# Altium footprint library 6U4AD_PCB_1212.PcbLib: 41 footprints (part 2 of 3)
Each footprint in its own frame and in the unit in brackets; x right, y up, seen from the top. Pads: shape width x height; smd on the part's side, far side on the other; paste and mask are expansions set on the pad; w line width, h text height; cw(c..) or ccw(c..) is an arc to the next point about the centre after c.
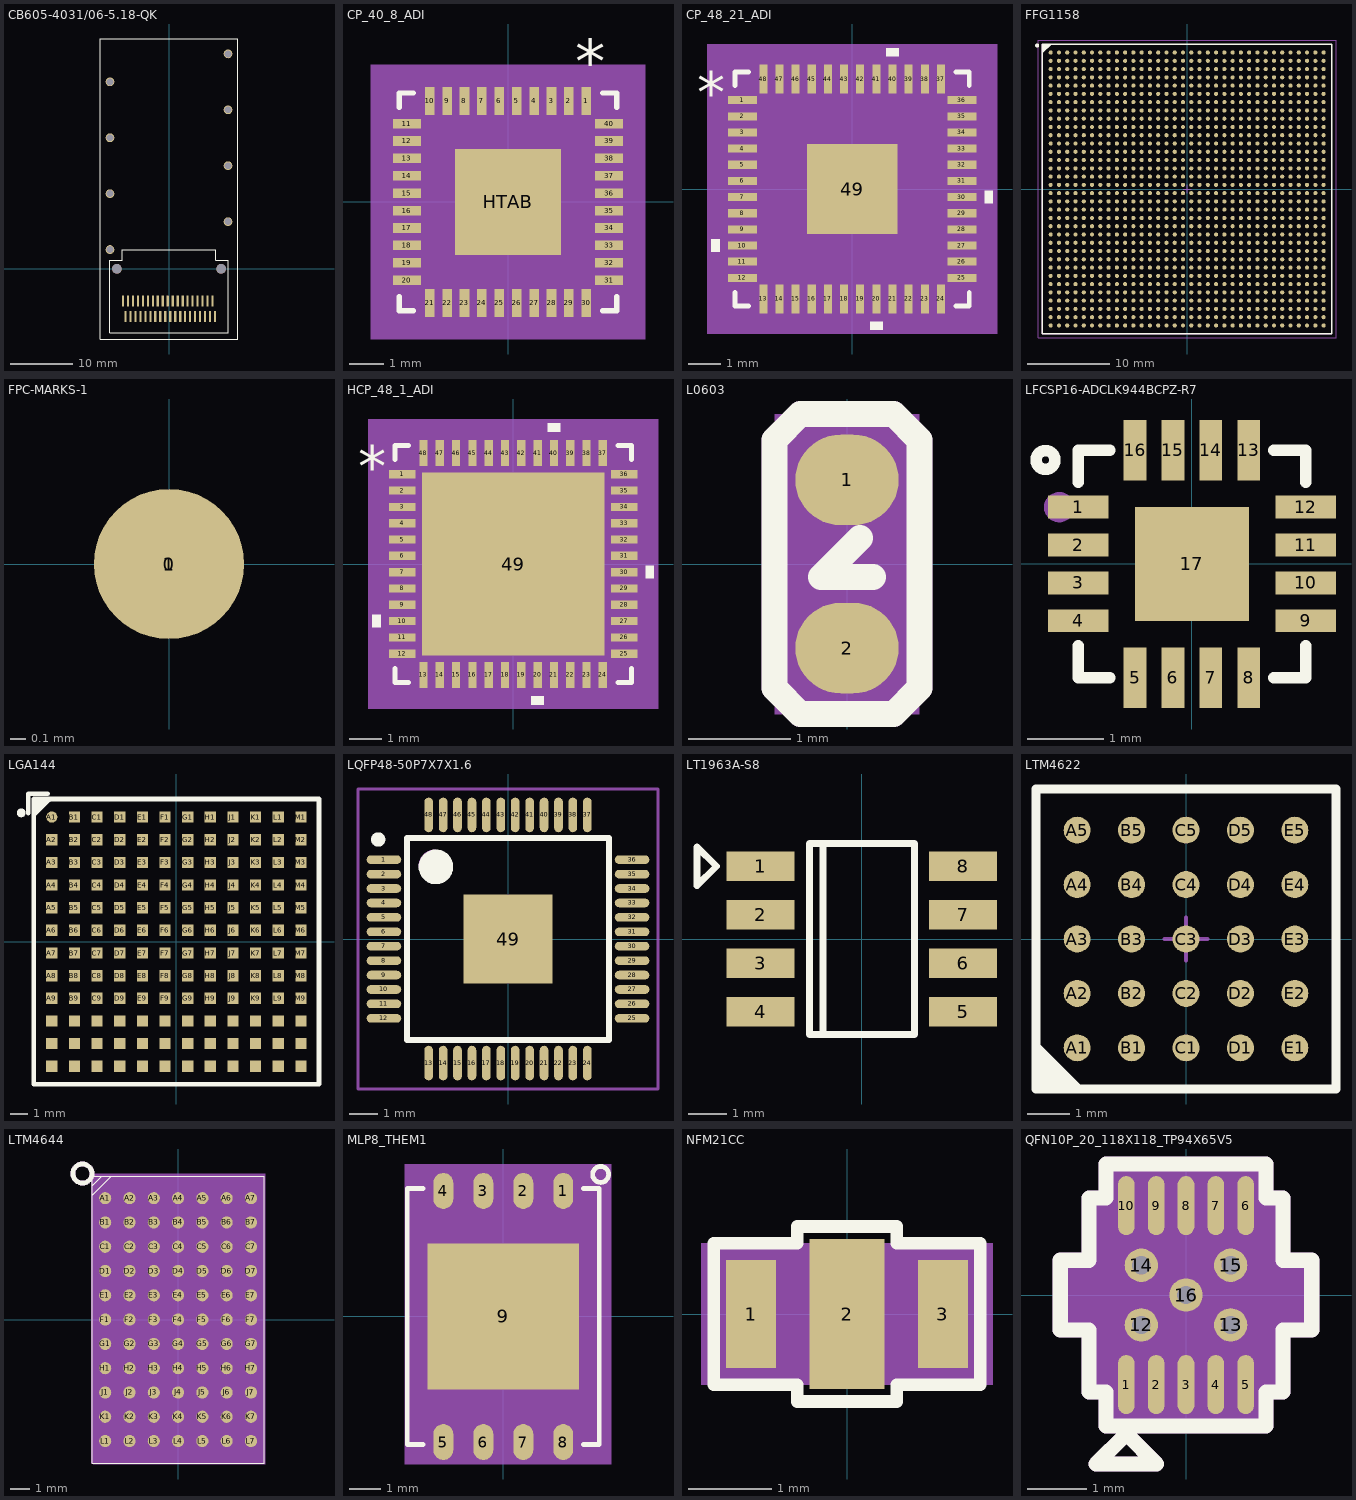
[diagram p1: the footprints below, top view; thin cyan lines are the x and y axes]

## CB605-4031/06-5.18-QK [mm]
pads (48):
  rect 0.35x1.8 smd: 1(7,-5.18) 2(6.2,-5.18) 3(5.4,-5.18) 4(4.6,-5.18) 5(3.8,-5.18) 6(3,-5.18) 7(2.2,-5.18) 8(1.4,-5.18) 9(0.6,-5.18) 10(-0.2,-5.18) 11(-1,-5.18) 12(-1.8,-5.18) 13(-2.6,-5.18) 14(-3.4,-5.18) 15(-4.2,-5.18) 16(-5,-5.18) 17(-5.8,-5.18) 18(-6.6,-5.18) 19(-7.4,-5.18) 20(-7,-7.69) 21(-6.2,-7.69) 22(-5.4,-7.69) 23(-4.6,-7.69) 24(-3.8,-7.69) 25(-3,-7.69) 26(-2.2,-7.69) 27(-1.4,-7.69) 28(-0.6,-7.69) 29(0.2,-7.69) 30(1,-7.69) 31(1.8,-7.69) 32(2.6,-7.69) 33(3.4,-7.69) 34(4.2,-7.69) 35(5,-7.69) 36(5.8,-7.69) 37(6.6,-7.69) 38(7.4,-7.69)
  round 1.4 hole 1.1: 39(-9.5,3.1) 39(-9.5,12.1) 39(-9.5,21.1) 39(-9.5,30.1) 39(9.5,7.6) 39(9.5,16.6) 39(9.5,25.6) 39(9.5,34.6)
  round 1.55 hole 1.55: ""(-8.4,0) ""(8.4,0)
Top Overlay:
  lines w0.1: -11.075,-11.3 -11.075,37 11.075,37 11.075,-11.3 -11.075,-11.3 ; -9.5,-10.3 -9.5,1.36 -7.51,1.36 -7.51,3.05 7.51,3.05 7.51,1.36 9.5,1.36 9.5,-10.3 -9.5,-10.3

## CP_40_8_ADI [mm]
pads (41):
  rect 0.275x0.805 smd paste+0 mask+0: 1(2.25,2.902) 2(1.75,2.902) 3(1.25,2.902) 4(0.75,2.902) 5(0.25,2.902) 6(-0.25,2.902) 7(-0.75,2.902) 8(-1.25,2.902) 9(-1.75,2.902) 10(-2.25,2.902) 21(-2.25,-2.902) 22(-1.75,-2.902) 23(-1.25,-2.902) 24(-0.75,-2.902) 25(-0.25,-2.902) 26(0.25,-2.902) 27(0.75,-2.902) 28(1.25,-2.902) 29(1.75,-2.902) 30(2.25,-2.902)
  rect 0.805x0.275 smd paste+0 mask+0: 11(-2.902,2.25) 12(-2.902,1.75) 13(-2.902,1.25) 14(-2.902,0.75) 15(-2.902,0.25) 16(-2.902,-0.25) 17(-2.902,-0.75) 18(-2.902,-1.25) 19(-2.902,-1.75) 20(-2.902,-2.25) 31(2.902,-2.25) 32(2.902,-1.75) 33(2.902,-1.25) 34(2.902,-0.75) 35(2.902,-0.25) 36(2.902,0.25) 37(2.902,0.75) 38(2.902,1.25) 39(2.902,1.75) 40(2.902,2.25)
  rect 3.05x3.05 smd paste+0 mask+0: HTAB(0,0)
Top Overlay:
  lines w0.152: -3.127,-2.72 -3.127,-3.127 -2.72,-3.127 ; -3.127,2.72 -3.127,3.127 -2.72,3.127 ; 2.72,-3.127 3.127,-3.127 3.127,-2.72 ; 2.72,3.127 3.127,3.127 3.127,2.72
  text "*" at 1.933,3.41 h1.27
Top Paste:
  region: 1.425,-0.1 0.1,-0.1 0.1,-1.425 1.425,-1.425
  region: 1.425,1.425 0.1,1.425 0.1,0.1 1.425,0.1
  region: -0.1,-0.1 -1.425,-0.1 -1.425,-1.425 -0.1,-1.425
  region: -0.1,1.425 -1.425,1.425 -1.425,0.1 -0.1,0.1
Mechanical 5:
  region: 3.94,-3.94 -3.94,-3.94 -3.94,3.94 3.94,3.94
Mechanical 13:
  lines w0.025: -3,-2.4 -3,-2.1 -3,-2.4 ; -3,-2.4 -2.4,-3 ; -3,2.4 -3,2.1 -3,2.4 ; -3,2.4 -2.4,3 ; -2.4,-3 -2.1,-3 -2.4,-3 ; -2.4,3 -2.1,3 -2.4,3 ; 2.4,-3 2.1,-3 2.4,-3 ; 2.4,-3 3,-2.4 ; 2.4,3 2.1,3 2.4,3 ; 2.4,3 3,2.4 ; 3,-2.4 3,-2.1 3,-2.4 ; 3,2.4 3,2.1 3,2.4 ; -3,-3 -3,3 3,3 3,-3 -3,-3 ; -3,-1.9 -3,-1.6 -3,-1.9 ; -3,-1.4 -3,-1.1 -3,-1.4 ; -3,-0.9 -3,-0.6 -3,-0.9 ; -3,-0.4 -3,-0.1 -3,-0.4 ; -3,0.1 -3,0.4 -3,0.1 ; -3,0.6 -3,0.9 -3,0.6 ; -3,1.1 -3,1.4 -3,1.1 ; -3,1.6 -3,1.9 -3,1.6 ; -1.9,-3 -1.6,-3 -1.9,-3 ; -1.9,3 -1.6,3 -1.9,3 ; -1.4,-3 -1.1,-3 -1.4,-3 ; -1.4,3 -1.1,3 -1.4,3 ; -0.9,-3 -0.6,-3 -0.9,-3 ; -0.9,3 -0.6,3 -0.9,3 ; -0.4,-3 -0.1,-3 -0.4,-3 ; -0.4,3 -0.1,3 -0.4,3 ; 0.1,-3 0.4,-3 0.1,-3 ; 0.1,3 0.4,3 0.1,3 ; 0.6,-3 0.9,-3 0.6,-3 ; 0.6,3 0.9,3 0.6,3 ; 1.1,-3 1.4,-3 1.1,-3 ; 1.1,3 1.4,3 1.1,3 ; 1.6,-3 1.9,-3 1.6,-3 ; 1.6,3 1.9,3 1.6,3 ; 3,-1.9 3,-1.6 3,-1.9 ; 3,-1.4 3,-1.1 3,-1.4 ; 3,-0.9 3,-0.6 3,-0.9 ; 3,-0.4 3,-0.1 3,-0.4 ; 3,0.1 3,0.4 3,0.1 ; 3,0.6 3,0.9 3,0.6 ; 3,1.1 3,1.4 3,1.1 ; 3,1.6 3,1.9 3,1.6
  text "*" at 2.091,2.433 h0.64
Mechanical 15:
  region: -2.641,-3.254 -3.254,-3.254 -3.254,-2.641 -3.559,-2.641 -3.559,2.641 -3.254,2.641 -3.254,3.254 -2.641,3.254 -2.641,3.559 2.641,3.559 2.641,3.254 3.254,3.254 3.254,2.641 3.559,2.641 3.559,-2.641 3.254,-2.641 3.254,-3.254 2.641,-3.254 2.641,-3.559 -2.641,-3.559
  lines w0.152: -3.559,-2.641 -3.559,2.641 -3.254,2.641 -3.254,3.254 -2.641,3.254 -2.641,3.559 2.641,3.559 2.641,3.254 3.254,3.254 3.254,2.641 3.559,2.641 3.559,-2.641 3.254,-2.641 3.254,-3.254 2.641,-3.254 2.641,-3.559 -2.641,-3.559 -2.641,-3.254 -3.254,-3.254 -3.254,-2.641 -3.559,-2.641
3D body "CP_40_8_ADI.step": height 1, standoff 0, extent -3,-3 3,3

## CP_48_21_ADI [mm]
pads (49):
  rect 0.9x0.25 smd paste+0 mask+0: 1(-3.4,2.75) 2(-3.4,2.25) 3(-3.4,1.75) 4(-3.4,1.25) 5(-3.4,0.75) 6(-3.4,0.25) 7(-3.4,-0.25) 8(-3.4,-0.75) 9(-3.4,-1.25) 10(-3.4,-1.75) 11(-3.4,-2.25) 12(-3.4,-2.75) 25(3.4,-2.75) 26(3.4,-2.25) 27(3.4,-1.75) 28(3.4,-1.25) 29(3.4,-0.75) 30(3.4,-0.25) 31(3.4,0.25) 32(3.4,0.75) 33(3.4,1.25) 34(3.4,1.75) 35(3.4,2.25) 36(3.4,2.75)
  rect 0.25x0.9 smd paste+0 mask+0: 13(-2.75,-3.4) 14(-2.25,-3.4) 15(-1.75,-3.4) 16(-1.25,-3.4) 17(-0.75,-3.4) 18(-0.25,-3.4) 19(0.25,-3.4) 20(0.75,-3.4) 21(1.25,-3.4) 22(1.75,-3.4) 23(2.25,-3.4) 24(2.75,-3.4) 37(2.75,3.4) 38(2.25,3.4) 39(1.75,3.4) 40(1.25,3.4) 41(0.75,3.4) 42(0.25,3.4) 43(-0.25,3.4) 44(-0.75,3.4) 45(-1.25,3.4) 46(-1.75,3.4) 47(-2.25,3.4) 48(-2.75,3.4)
  rect 2.8x2.8 smd paste-1.387 mask+0: 49(0,0)
Top Overlay:
  region: 1.441,4.104 1.06,4.104 1.06,4.358 1.441,4.358
  region: 4.104,-0.059 4.358,-0.059 4.358,-0.44 4.104,-0.44
  region: 0.941,-4.104 0.56,-4.104 0.56,-4.358 0.941,-4.358
  region: -4.104,-1.559 -4.358,-1.559 -4.358,-1.94 -4.104,-1.94
  lines w0.152: -3.627,-3.208 -3.627,-3.627 -3.208,-3.627 ; -3.627,3.208 -3.627,3.627 -3.208,3.627 ; 3.208,-3.627 3.627,-3.627 3.627,-3.208 ; 3.208,3.627 3.627,3.627 3.627,3.208
  text "*" at -4.802,2.365 h1.27
Top Paste:
  region: 1.3,-0.1 0.1,-0.1 0.1,-1.3 1.3,-1.3
  region: 1.3,1.3 0.1,1.3 0.1,0.1 1.3,0.1
  region: -0.1,-0.1 -1.3,-0.1 -1.3,-1.3 -0.1,-1.3
  region: -0.1,1.3 -1.3,1.3 -1.3,0.1 -0.1,0.1
Mechanical 5:
  region: 4.485,-4.485 -4.485,-4.485 -4.485,4.485 4.485,4.485
Mechanical 13:
  drawing of 197 lines, arcs and shapes, not listed
  text "*" at -3.267,2.365 h1.27
Mechanical 15:
  region: -3.129,-3.754 -3.754,-3.754 -3.754,-3.129 -4.104,-3.129 -4.104,3.129 -3.754,3.129 -3.754,3.754 -3.129,3.754 -3.129,4.104 3.129,4.104 3.129,3.754 3.754,3.754 3.754,3.129 4.104,3.129 4.104,-3.129 3.754,-3.129 3.754,-3.754 3.129,-3.754 3.129,-4.104 -3.129,-4.104
  lines w0.152: -4.104,-3.129 -4.104,3.129 -3.754,3.129 -3.754,3.754 -3.129,3.754 -3.129,4.104 3.129,4.104 3.129,3.754 3.754,3.754 3.754,3.129 4.104,3.129 4.104,-3.129 3.754,-3.129 3.754,-3.754 3.129,-3.754 3.129,-4.104 -3.129,-4.104 -3.129,-3.754 -3.754,-3.754 -3.754,-3.129 -4.104,-3.129
3D body "CP_48_21_ADI.step": height 0.8, standoff 0, extent -3.55,-3.55 3.55,3.55

## FFG1158 [mm] "BGA, 1156-Balls, Body 35x35mm, Pitch 1mm"
height 3.35
pads (1156):
  round 0.5 smd: A1(-16.5,16.5) A2(-15.5,16.5) A3(-14.5,16.5) A4(-13.5,16.5) A5(-12.5,16.5) A6(-11.5,16.5) A7(-10.5,16.5) A8(-9.5,16.5) A9(-8.5,16.5) A10(-7.5,16.5) A11(-6.5,16.5) A12(-5.5,16.5) A13(-4.5,16.5) A14(-3.5,16.5) A15(-2.5,16.5) A16(-1.5,16.5) A17(-0.5,16.5) A18(0.5,16.5) A19(1.5,16.5) A20(2.5,16.5) A21(3.5,16.5) A22(4.5,16.5) A23(5.5,16.5) A24(6.5,16.5) A25(7.5,16.5) A26(8.5,16.5) A27(9.5,16.5) A28(10.5,16.5) A29(11.5,16.5) A30(12.5,16.5) A31(13.5,16.5) A32(14.5,16.5) A33(15.5,16.5) A34(16.5,16.5) AA1(-16.5,-3.5) AA2(-15.5,-3.5) AA3(-14.5,-3.5) AA4(-13.5,-3.5) AA5(-12.5,-3.5) AA6(-11.5,-3.5) AA7(-10.5,-3.5) AA8(-9.5,-3.5) AA9(-8.5,-3.5) AA10(-7.5,-3.5) AA11(-6.5,-3.5) AA12(-5.5,-3.5) AA13(-4.5,-3.5) AA14(-3.5,-3.5) AA15(-2.5,-3.5) AA16(-1.5,-3.5) AA17(-0.5,-3.5) AA18(0.5,-3.5) AA19(1.5,-3.5) AA20(2.5,-3.5) AA21(3.5,-3.5) AA22(4.5,-3.5) AA23(5.5,-3.5) AA24(6.5,-3.5) AA25(7.5,-3.5) AA26(8.5,-3.5) AA27(9.5,-3.5) AA28(10.5,-3.5) AA29(11.5,-3.5) AA30(12.5,-3.5) AA31(13.5,-3.5) AA32(14.5,-3.5) AA33(15.5,-3.5) AA34(16.5,-3.5) AB1(-16.5,-4.5) AB2(-15.5,-4.5) AB3(-14.5,-4.5) AB4(-13.5,-4.5) AB5(-12.5,-4.5) AB6(-11.5,-4.5) AB7(-10.5,-4.5) AB8(-9.5,-4.5) AB9(-8.5,-4.5) AB10(-7.5,-4.5) AB11(-6.5,-4.5) AB12(-5.5,-4.5) AB13(-4.5,-4.5) AB14(-3.5,-4.5) AB15(-2.5,-4.5) AB16(-1.5,-4.5) AB17(-0.5,-4.5) AB18(0.5,-4.5) AB19(1.5,-4.5) AB20(2.5,-4.5) AB21(3.5,-4.5) AB22(4.5,-4.5) AB23(5.5,-4.5) AB24(6.5,-4.5) AB25(7.5,-4.5) AB26(8.5,-4.5) AB27(9.5,-4.5) AB28(10.5,-4.5) AB29(11.5,-4.5) AB30(12.5,-4.5) AB31(13.5,-4.5) AB32(14.5,-4.5) AB33(15.5,-4.5) AB34(16.5,-4.5) AC1(-16.5,-5.5) AC2(-15.5,-5.5) AC3(-14.5,-5.5) AC4(-13.5,-5.5) AC5(-12.5,-5.5) AC6(-11.5,-5.5) AC7(-10.5,-5.5) AC8(-9.5,-5.5) AC9(-8.5,-5.5) AC10(-7.5,-5.5) AC11(-6.5,-5.5) AC12(-5.5,-5.5) AC13(-4.5,-5.5) AC14(-3.5,-5.5) AC15(-2.5,-5.5) AC16(-1.5,-5.5) AC17(-0.5,-5.5) AC18(0.5,-5.5) AC19(1.5,-5.5) AC20(2.5,-5.5) AC21(3.5,-5.5) AC22(4.5,-5.5) AC23(5.5,-5.5) AC24(6.5,-5.5) AC25(7.5,-5.5) AC26(8.5,-5.5) AC27(9.5,-5.5) AC28(10.5,-5.5) AC29(11.5,-5.5) AC30(12.5,-5.5) AC31(13.5,-5.5) AC32(14.5,-5.5) AC33(15.5,-5.5) AC34(16.5,-5.5) AD1(-16.5,-6.5) AD2(-15.5,-6.5) AD3(-14.5,-6.5) AD4(-13.5,-6.5) AD5(-12.5,-6.5) AD6(-11.5,-6.5) AD7(-10.5,-6.5) AD8(-9.5,-6.5) AD9(-8.5,-6.5) AD10(-7.5,-6.5) AD11(-6.5,-6.5) AD12(-5.5,-6.5) AD13(-4.5,-6.5) AD14(-3.5,-6.5) AD15(-2.5,-6.5) AD16(-1.5,-6.5) AD17(-0.5,-6.5) AD18(0.5,-6.5) AD19(1.5,-6.5) AD20(2.5,-6.5) AD21(3.5,-6.5) AD22(4.5,-6.5) AD23(5.5,-6.5) AD24(6.5,-6.5) AD25(7.5,-6.5) AD26(8.5,-6.5) AD27(9.5,-6.5) AD28(10.5,-6.5) AD29(11.5,-6.5) AD30(12.5,-6.5) AD31(13.5,-6.5) AD32(14.5,-6.5) AD33(15.5,-6.5) AD34(16.5,-6.5) AE1(-16.5,-7.5) AE2(-15.5,-7.5) AE3(-14.5,-7.5) AE4(-13.5,-7.5) AE5(-12.5,-7.5) AE6(-11.5,-7.5) AE7(-10.5,-7.5) AE8(-9.5,-7.5) AE9(-8.5,-7.5) AE10(-7.5,-7.5) AE11(-6.5,-7.5) AE12(-5.5,-7.5) AE13(-4.5,-7.5) AE14(-3.5,-7.5) AE15(-2.5,-7.5) AE16(-1.5,-7.5) AE17(-0.5,-7.5) AE18(0.5,-7.5) AE19(1.5,-7.5) AE20(2.5,-7.5) AE21(3.5,-7.5) AE22(4.5,-7.5) AE23(5.5,-7.5) AE24(6.5,-7.5) AE25(7.5,-7.5) AE26(8.5,-7.5) AE27(9.5,-7.5) AE28(10.5,-7.5) AE29(11.5,-7.5) AE30(12.5,-7.5) AE31(13.5,-7.5) AE32(14.5,-7.5) AE33(15.5,-7.5) AE34(16.5,-7.5) AF1(-16.5,-8.5) AF2(-15.5,-8.5) AF3(-14.5,-8.5) AF4(-13.5,-8.5) AF5(-12.5,-8.5) AF6(-11.5,-8.5) AF7(-10.5,-8.5) AF8(-9.5,-8.5) AF9(-8.5,-8.5) AF10(-7.5,-8.5) AF11(-6.5,-8.5) AF12(-5.5,-8.5) AF13(-4.5,-8.5) AF14(-3.5,-8.5) AF15(-2.5,-8.5) AF16(-1.5,-8.5) AF17(-0.5,-8.5) AF18(0.5,-8.5) AF19(1.5,-8.5) AF20(2.5,-8.5) AF21(3.5,-8.5) AF22(4.5,-8.5) AF23(5.5,-8.5) AF24(6.5,-8.5) AF25(7.5,-8.5) AF26(8.5,-8.5) AF27(9.5,-8.5) AF28(10.5,-8.5) AF29(11.5,-8.5) AF30(12.5,-8.5) AF31(13.5,-8.5) AF32(14.5,-8.5) AF33(15.5,-8.5) AF34(16.5,-8.5) AG1(-16.5,-9.5) AG2(-15.5,-9.5) AG3(-14.5,-9.5) AG4(-13.5,-9.5) AG5(-12.5,-9.5) AG6(-11.5,-9.5) AG7(-10.5,-9.5) AG8(-9.5,-9.5) AG9(-8.5,-9.5) AG10(-7.5,-9.5) AG11(-6.5,-9.5) AG12(-5.5,-9.5) AG13(-4.5,-9.5) AG14(-3.5,-9.5) AG15(-2.5,-9.5) AG16(-1.5,-9.5) AG17(-0.5,-9.5) AG18(0.5,-9.5) AG19(1.5,-9.5) AG20(2.5,-9.5) AG21(3.5,-9.5) AG22(4.5,-9.5) AG23(5.5,-9.5) AG24(6.5,-9.5) AG25(7.5,-9.5) AG26(8.5,-9.5) AG27(9.5,-9.5) AG28(10.5,-9.5) AG29(11.5,-9.5) AG30(12.5,-9.5) AG31(13.5,-9.5) AG32(14.5,-9.5) AG33(15.5,-9.5) AG34(16.5,-9.5) AH1(-16.5,-10.5) AH2(-15.5,-10.5) AH3(-14.5,-10.5) AH4(-13.5,-10.5) AH5(-12.5,-10.5) AH6(-11.5,-10.5) AH7(-10.5,-10.5) AH8(-9.5,-10.5) AH9(-8.5,-10.5) AH10(-7.5,-10.5) AH11(-6.5,-10.5) AH12(-5.5,-10.5) AH13(-4.5,-10.5) AH14(-3.5,-10.5) AH15(-2.5,-10.5) AH16(-1.5,-10.5) AH17(-0.5,-10.5) AH18(0.5,-10.5) AH19(1.5,-10.5) AH20(2.5,-10.5) AH21(3.5,-10.5) AH22(4.5,-10.5) AH23(5.5,-10.5) AH24(6.5,-10.5) AH25(7.5,-10.5) AH26(8.5,-10.5) AH27(9.5,-10.5) AH28(10.5,-10.5) AH29(11.5,-10.5) AH30(12.5,-10.5) AH31(13.5,-10.5) AH32(14.5,-10.5) AH33(15.5,-10.5) AH34(16.5,-10.5) AJ1(-16.5,-11.5) AJ2(-15.5,-11.5) AJ3(-14.5,-11.5) AJ4(-13.5,-11.5) AJ5(-12.5,-11.5) AJ6(-11.5,-11.5) AJ7(-10.5,-11.5) AJ8(-9.5,-11.5) AJ9(-8.5,-11.5) AJ10(-7.5,-11.5) AJ11(-6.5,-11.5) AJ12(-5.5,-11.5) AJ13(-4.5,-11.5) AJ14(-3.5,-11.5) AJ15(-2.5,-11.5) AJ16(-1.5,-11.5) AJ17(-0.5,-11.5) AJ18(0.5,-11.5) AJ19(1.5,-11.5) AJ20(2.5,-11.5) AJ21(3.5,-11.5) AJ22(4.5,-11.5) AJ23(5.5,-11.5) AJ24(6.5,-11.5) AJ25(7.5,-11.5) AJ26(8.5,-11.5) AJ27(9.5,-11.5) AJ28(10.5,-11.5) AJ29(11.5,-11.5) AJ30(12.5,-11.5) AJ31(13.5,-11.5) AJ32(14.5,-11.5) AJ33(15.5,-11.5) AJ34(16.5,-11.5) AK1(-16.5,-12.5) AK2(-15.5,-12.5) AK3(-14.5,-12.5) AK4(-13.5,-12.5) AK5(-12.5,-12.5) AK6(-11.5,-12.5) AK7(-10.5,-12.5) AK8(-9.5,-12.5) AK9(-8.5,-12.5) AK10(-7.5,-12.5) AK11(-6.5,-12.5) AK12(-5.5,-12.5) AK13(-4.5,-12.5) AK14(-3.5,-12.5) AK15(-2.5,-12.5) AK16(-1.5,-12.5) AK17(-0.5,-12.5) AK18(0.5,-12.5) AK19(1.5,-12.5) AK20(2.5,-12.5) AK21(3.5,-12.5) AK22(4.5,-12.5) AK23(5.5,-12.5) AK24(6.5,-12.5) AK25(7.5,-12.5) AK26(8.5,-12.5) AK27(9.5,-12.5) AK28(10.5,-12.5) AK29(11.5,-12.5) AK30(12.5,-12.5) AK31(13.5,-12.5) AK32(14.5,-12.5) AK33(15.5,-12.5) AK34(16.5,-12.5) AL1(-16.5,-13.5) AL2(-15.5,-13.5) AL3(-14.5,-13.5) AL4(-13.5,-13.5) AL5(-12.5,-13.5) AL6(-11.5,-13.5) AL7(-10.5,-13.5) AL8(-9.5,-13.5) AL9(-8.5,-13.5) AL10(-7.5,-13.5) AL11(-6.5,-13.5) AL12(-5.5,-13.5) AL13(-4.5,-13.5) AL14(-3.5,-13.5) AL15(-2.5,-13.5) AL16(-1.5,-13.5) AL17(-0.5,-13.5) AL18(0.5,-13.5) AL19(1.5,-13.5) AL20(2.5,-13.5) AL21(3.5,-13.5) AL22(4.5,-13.5) AL23(5.5,-13.5) AL24(6.5,-13.5) AL25(7.5,-13.5) AL26(8.5,-13.5) AL27(9.5,-13.5) AL28(10.5,-13.5) AL29(11.5,-13.5) AL30(12.5,-13.5) AL31(13.5,-13.5) AL32(14.5,-13.5) AL33(15.5,-13.5) AL34(16.5,-13.5) AM1(-16.5,-14.5) AM2(-15.5,-14.5) AM3(-14.5,-14.5) AM4(-13.5,-14.5) AM5(-12.5,-14.5) AM6(-11.5,-14.5) AM7(-10.5,-14.5) AM8(-9.5,-14.5) AM9(-8.5,-14.5) AM10(-7.5,-14.5) AM11(-6.5,-14.5) AM12(-5.5,-14.5) AM13(-4.5,-14.5) AM14(-3.5,-14.5) AM15(-2.5,-14.5) AM16(-1.5,-14.5) AM17(-0.5,-14.5) AM18(0.5,-14.5) AM19(1.5,-14.5) AM20(2.5,-14.5) AM21(3.5,-14.5) AM22(4.5,-14.5) AM23(5.5,-14.5) AM24(6.5,-14.5) AM25(7.5,-14.5) AM26(8.5,-14.5) AM27(9.5,-14.5) AM28(10.5,-14.5) AM29(11.5,-14.5) AM30(12.5,-14.5) AM31(13.5,-14.5) AM32(14.5,-14.5) AM33(15.5,-14.5) AM34(16.5,-14.5) AN1(-16.5,-15.5) AN2(-15.5,-15.5) AN3(-14.5,-15.5) AN4(-13.5,-15.5) AN5(-12.5,-15.5) AN6(-11.5,-15.5) AN7(-10.5,-15.5) AN8(-9.5,-15.5) AN9(-8.5,-15.5) AN10(-7.5,-15.5) AN11(-6.5,-15.5) AN12(-5.5,-15.5) AN13(-4.5,-15.5) AN14(-3.5,-15.5) AN15(-2.5,-15.5) AN16(-1.5,-15.5) AN17(-0.5,-15.5) AN18(0.5,-15.5) AN19(1.5,-15.5) AN20(2.5,-15.5) AN21(3.5,-15.5) AN22(4.5,-15.5) AN23(5.5,-15.5) AN24(6.5,-15.5) AN25(7.5,-15.5) AN26(8.5,-15.5) AN27(9.5,-15.5) AN28(10.5,-15.5) AN29(11.5,-15.5) AN30(12.5,-15.5) AN31(13.5,-15.5) AN32(14.5,-15.5) AN33(15.5,-15.5) AN34(16.5,-15.5) AP1(-16.5,-16.5) AP2(-15.5,-16.5) AP3(-14.5,-16.5) AP4(-13.5,-16.5) AP5(-12.5,-16.5) AP6(-11.5,-16.5) AP7(-10.5,-16.5) AP8(-9.5,-16.5) AP9(-8.5,-16.5) AP10(-7.5,-16.5) AP11(-6.5,-16.5) AP12(-5.5,-16.5) AP13(-4.5,-16.5) AP14(-3.5,-16.5) AP15(-2.5,-16.5) AP16(-1.5,-16.5) AP17(-0.5,-16.5) AP18(0.5,-16.5) AP19(1.5,-16.5) AP20(2.5,-16.5) AP21(3.5,-16.5) AP22(4.5,-16.5) AP23(5.5,-16.5) AP24(6.5,-16.5) AP25(7.5,-16.5) AP26(8.5,-16.5) AP27(9.5,-16.5) AP28(10.5,-16.5) AP29(11.5,-16.5) AP30(12.5,-16.5) AP31(13.5,-16.5) AP32(14.5,-16.5) AP33(15.5,-16.5) AP34(16.5,-16.5) B1(-16.5,15.5) B2(-15.5,15.5) B3(-14.5,15.5) B4(-13.5,15.5) B5(-12.5,15.5) B6(-11.5,15.5) B7(-10.5,15.5) B8(-9.5,15.5) B9(-8.5,15.5) B10(-7.5,15.5) B11(-6.5,15.5) B12(-5.5,15.5) B13(-4.5,15.5) B14(-3.5,15.5) B15(-2.5,15.5) B16(-1.5,15.5) B17(-0.5,15.5) B18(0.5,15.5) B19(1.5,15.5) B20(2.5,15.5) B21(3.5,15.5) B22(4.5,15.5) B23(5.5,15.5) B24(6.5,15.5) B25(7.5,15.5) B26(8.5,15.5) B27(9.5,15.5) B28(10.5,15.5) B29(11.5,15.5) B30(12.5,15.5) B31(13.5,15.5) B32(14.5,15.5) B33(15.5,15.5) B34(16.5,15.5) C1(-16.5,14.5) C2(-15.5,14.5) C3(-14.5,14.5) C4(-13.5,14.5) C5(-12.5,14.5) C6(-11.5,14.5) C7(-10.5,14.5) C8(-9.5,14.5) C9(-8.5,14.5) C10(-7.5,14.5) C11(-6.5,14.5) C12(-5.5,14.5) C13(-4.5,14.5) C14(-3.5,14.5) C15(-2.5,14.5) C16(-1.5,14.5) C17(-0.5,14.5) C18(0.5,14.5) C19(1.5,14.5) C20(2.5,14.5) C21(3.5,14.5) C22(4.5,14.5) C23(5.5,14.5) C24(6.5,14.5) C25(7.5,14.5) C26(8.5,14.5) C27(9.5,14.5) C28(10.5,14.5) C29(11.5,14.5) C30(12.5,14.5) C31(13.5,14.5) C32(14.5,14.5) C33(15.5,14.5) C34(16.5,14.5) D1(-16.5,13.5) D2(-15.5,13.5) D3(-14.5,13.5) D4(-13.5,13.5) D5(-12.5,13.5) D6(-11.5,13.5) D7(-10.5,13.5) D8(-9.5,13.5) D9(-8.5,13.5) D10(-7.5,13.5) D11(-6.5,13.5) D12(-5.5,13.5) D13(-4.5,13.5) D14(-3.5,13.5) D15(-2.5,13.5) D16(-1.5,13.5) D17(-0.5,13.5) D18(0.5,13.5) D19(1.5,13.5) D20(2.5,13.5) D21(3.5,13.5) D22(4.5,13.5) D23(5.5,13.5) D24(6.5,13.5) D25(7.5,13.5) D26(8.5,13.5) D27(9.5,13.5) D28(10.5,13.5) D29(11.5,13.5) D30(12.5,13.5) D31(13.5,13.5) D32(14.5,13.5) D33(15.5,13.5) D34(16.5,13.5) E1(-16.5,12.5) E2(-15.5,12.5) E3(-14.5,12.5) E4(-13.5,12.5) E5(-12.5,12.5) E6(-11.5,12.5) E7(-10.5,12.5) E8(-9.5,12.5) E9(-8.5,12.5) E10(-7.5,12.5) E11(-6.5,12.5) E12(-5.5,12.5) E13(-4.5,12.5) E14(-3.5,12.5) E15(-2.5,12.5) E16(-1.5,12.5) E17(-0.5,12.5) E18(0.5,12.5) E19(1.5,12.5) E20(2.5,12.5) E21(3.5,12.5) E22(4.5,12.5) E23(5.5,12.5) E24(6.5,12.5) E25(7.5,12.5) E26(8.5,12.5) E27(9.5,12.5) E28(10.5,12.5) E29(11.5,12.5) E30(12.5,12.5) E31(13.5,12.5) E32(14.5,12.5) E33(15.5,12.5) E34(16.5,12.5) F1(-16.5,11.5) F2(-15.5,11.5) F3(-14.5,11.5) F4(-13.5,11.5) F5(-12.5,11.5) F6(-11.5,11.5) F7(-10.5,11.5) F8(-9.5,11.5) F9(-8.5,11.5) F10(-7.5,11.5) F11(-6.5,11.5) F12(-5.5,11.5) F13(-4.5,11.5) F14(-3.5,11.5) F15(-2.5,11.5) F16(-1.5,11.5) F17(-0.5,11.5) F18(0.5,11.5) F19(1.5,11.5) F20(2.5,11.5) F21(3.5,11.5) F22(4.5,11.5) F23(5.5,11.5) F24(6.5,11.5) F25(7.5,11.5) F26(8.5,11.5) F27(9.5,11.5) F28(10.5,11.5) F29(11.5,11.5) F30(12.5,11.5) F31(13.5,11.5) F32(14.5,11.5) F33(15.5,11.5) F34(16.5,11.5) G1(-16.5,10.5) G2(-15.5,10.5) G3(-14.5,10.5) G4(-13.5,10.5) G5(-12.5,10.5) G6(-11.5,10.5) G7(-10.5,10.5) G8(-9.5,10.5) G9(-8.5,10.5) G10(-7.5,10.5) G11(-6.5,10.5) G12(-5.5,10.5) G13(-4.5,10.5) G14(-3.5,10.5) G15(-2.5,10.5) G16(-1.5,10.5) G17(-0.5,10.5) G18(0.5,10.5) G19(1.5,10.5) G20(2.5,10.5) G21(3.5,10.5) G22(4.5,10.5) G23(5.5,10.5) G24(6.5,10.5) G25(7.5,10.5) G26(8.5,10.5) G27(9.5,10.5) G28(10.5,10.5) G29(11.5,10.5) G30(12.5,10.5) G31(13.5,10.5) G32(14.5,10.5) G33(15.5,10.5) G34(16.5,10.5) H1(-16.5,9.5) H2(-15.5,9.5) H3(-14.5,9.5) H4(-13.5,9.5) H5(-12.5,9.5) H6(-11.5,9.5) H7(-10.5,9.5) H8(-9.5,9.5) H9(-8.5,9.5) H10(-7.5,9.5) H11(-6.5,9.5) H12(-5.5,9.5) H13(-4.5,9.5) H14(-3.5,9.5) H15(-2.5,9.5) H16(-1.5,9.5) H17(-0.5,9.5) H18(0.5,9.5) H19(1.5,9.5) H20(2.5,9.5) H21(3.5,9.5) H22(4.5,9.5) H23(5.5,9.5) H24(6.5,9.5) H25(7.5,9.5) H26(8.5,9.5) H27(9.5,9.5) H28(10.5,9.5) H29(11.5,9.5) H30(12.5,9.5) H31(13.5,9.5) H32(14.5,9.5) H33(15.5,9.5) H34(16.5,9.5) J1(-16.5,8.5) J2(-15.5,8.5) J3(-14.5,8.5) J4(-13.5,8.5) J5(-12.5,8.5) J6(-11.5,8.5) J7(-10.5,8.5) J8(-9.5,8.5) J9(-8.5,8.5) J10(-7.5,8.5) J11(-6.5,8.5) J12(-5.5,8.5) J13(-4.5,8.5) J14(-3.5,8.5) J15(-2.5,8.5) J16(-1.5,8.5) J17(-0.5,8.5) J18(0.5,8.5) J19(1.5,8.5) J20(2.5,8.5) J21(3.5,8.5) J22(4.5,8.5) J23(5.5,8.5) J24(6.5,8.5) J25(7.5,8.5) J26(8.5,8.5) J27(9.5,8.5) J28(10.5,8.5) J29(11.5,8.5) J30(12.5,8.5) J31(13.5,8.5) J32(14.5,8.5) J33(15.5,8.5) J34(16.5,8.5) K1(-16.5,7.5) K2(-15.5,7.5) K3(-14.5,7.5) K4(-13.5,7.5) K5(-12.5,7.5) K6(-11.5,7.5) K7(-10.5,7.5) K8(-9.5,7.5) K9(-8.5,7.5) K10(-7.5,7.5) K11(-6.5,7.5) K12(-5.5,7.5) K13(-4.5,7.5) K14(-3.5,7.5) K15(-2.5,7.5) K16(-1.5,7.5) K17(-0.5,7.5) K18(0.5,7.5) K19(1.5,7.5) K20(2.5,7.5) K21(3.5,7.5) K22(4.5,7.5) K23(5.5,7.5) K24(6.5,7.5) K25(7.5,7.5) K26(8.5,7.5) K27(9.5,7.5) K28(10.5,7.5) K29(11.5,7.5) K30(12.5,7.5) K31(13.5,7.5) K32(14.5,7.5) K33(15.5,7.5) K34(16.5,7.5) L1(-16.5,6.5) L2(-15.5,6.5) L3(-14.5,6.5) L4(-13.5,6.5) L5(-12.5,6.5) L6(-11.5,6.5) L7(-10.5,6.5) L8(-9.5,6.5) L9(-8.5,6.5) L10(-7.5,6.5) L11(-6.5,6.5) L12(-5.5,6.5) L13(-4.5,6.5) L14(-3.5,6.5) L15(-2.5,6.5) L16(-1.5,6.5) L17(-0.5,6.5) L18(0.5,6.5) L19(1.5,6.5) L20(2.5,6.5) L21(3.5,6.5) L22(4.5,6.5) L23(5.5,6.5) L24(6.5,6.5) L25(7.5,6.5) L26(8.5,6.5) L27(9.5,6.5) L28(10.5,6.5) L29(11.5,6.5) L30(12.5,6.5) L31(13.5,6.5) L32(14.5,6.5) L33(15.5,6.5) L34(16.5,6.5) M1(-16.5,5.5) M2(-15.5,5.5) M3(-14.5,5.5) M4(-13.5,5.5) M5(-12.5,5.5) M6(-11.5,5.5) M7(-10.5,5.5) M8(-9.5,5.5) M9(-8.5,5.5) M10(-7.5,5.5) M11(-6.5,5.5) M12(-5.5,5.5) M13(-4.5,5.5) M14(-3.5,5.5) M15(-2.5,5.5) M16(-1.5,5.5) M17(-0.5,5.5) M18(0.5,5.5) M19(1.5,5.5) M20(2.5,5.5) M21(3.5,5.5) M22(4.5,5.5) M23(5.5,5.5) M24(6.5,5.5) M25(7.5,5.5) M26(8.5,5.5) M27(9.5,5.5) M28(10.5,5.5) M29(11.5,5.5) M30(12.5,5.5) M31(13.5,5.5) M32(14.5,5.5) M33(15.5,5.5) M34(16.5,5.5) N1(-16.5,4.5) N2(-15.5,4.5) N3(-14.5,4.5) N4(-13.5,4.5) N5(-12.5,4.5) N6(-11.5,4.5) N7(-10.5,4.5) N8(-9.5,4.5) N9(-8.5,4.5) N10(-7.5,4.5) N11(-6.5,4.5) N12(-5.5,4.5) N13(-4.5,4.5) N14(-3.5,4.5) N15(-2.5,4.5) N16(-1.5,4.5) N17(-0.5,4.5) N18(0.5,4.5) N19(1.5,4.5) N20(2.5,4.5) N21(3.5,4.5) N22(4.5,4.5) N23(5.5,4.5) N24(6.5,4.5) N25(7.5,4.5) N26(8.5,4.5) N27(9.5,4.5) N28(10.5,4.5) N29(11.5,4.5) N30(12.5,4.5) N31(13.5,4.5) N32(14.5,4.5) N33(15.5,4.5) N34(16.5,4.5) P1(-16.5,3.5) P2(-15.5,3.5) P3(-14.5,3.5) P4(-13.5,3.5) P5(-12.5,3.5) P6(-11.5,3.5) P7(-10.5,3.5) P8(-9.5,3.5) P9(-8.5,3.5) P10(-7.5,3.5) P11(-6.5,3.5) P12(-5.5,3.5) P13(-4.5,3.5) P14(-3.5,3.5) P15(-2.5,3.5) P16(-1.5,3.5) P17(-0.5,3.5) P18(0.5,3.5) P19(1.5,3.5) P20(2.5,3.5) P21(3.5,3.5) P22(4.5,3.5) P23(5.5,3.5) P24(6.5,3.5) P25(7.5,3.5) P26(8.5,3.5) P27(9.5,3.5) P28(10.5,3.5) P29(11.5,3.5) P30(12.5,3.5) P31(13.5,3.5) P32(14.5,3.5) P33(15.5,3.5) P34(16.5,3.5) R1(-16.5,2.5) R2(-15.5,2.5) R3(-14.5,2.5) R4(-13.5,2.5) R5(-12.5,2.5) R6(-11.5,2.5) R7(-10.5,2.5) R8(-9.5,2.5) R9(-8.5,2.5) R10(-7.5,2.5) R11(-6.5,2.5) R12(-5.5,2.5) R13(-4.5,2.5) R14(-3.5,2.5) R15(-2.5,2.5) R16(-1.5,2.5) R17(-0.5,2.5) R18(0.5,2.5) R19(1.5,2.5) R20(2.5,2.5) R21(3.5,2.5) R22(4.5,2.5) R23(5.5,2.5) R24(6.5,2.5) R25(7.5,2.5) R26(8.5,2.5) R27(9.5,2.5) R28(10.5,2.5) R29(11.5,2.5) R30(12.5,2.5) R31(13.5,2.5) R32(14.5,2.5) R33(15.5,2.5) R34(16.5,2.5) T1(-16.5,1.5) T2(-15.5,1.5) T3(-14.5,1.5) T4(-13.5,1.5) T5(-12.5,1.5) T6(-11.5,1.5) T7(-10.5,1.5) T8(-9.5,1.5) T9(-8.5,1.5) T10(-7.5,1.5) T11(-6.5,1.5) T12(-5.5,1.5) T13(-4.5,1.5) T14(-3.5,1.5) T15(-2.5,1.5) T16(-1.5,1.5) T17(-0.5,1.5) T18(0.5,1.5) T19(1.5,1.5) T20(2.5,1.5) T21(3.5,1.5) T22(4.5,1.5) T23(5.5,1.5) T24(6.5,1.5) T25(7.5,1.5) T26(8.5,1.5) T27(9.5,1.5) T28(10.5,1.5) T29(11.5,1.5) T30(12.5,1.5) T31(13.5,1.5) T32(14.5,1.5) T33(15.5,1.5) T34(16.5,1.5) U1(-16.5,0.5) U2(-15.5,0.5) U3(-14.5,0.5) U4(-13.5,0.5) U5(-12.5,0.5) U6(-11.5,0.5) U7(-10.5,0.5) U8(-9.5,0.5) U9(-8.5,0.5) U10(-7.5,0.5) U11(-6.5,0.5) U12(-5.5,0.5) U13(-4.5,0.5) U14(-3.5,0.5) U15(-2.5,0.5) U16(-1.5,0.5) U17(-0.5,0.5) U18(0.5,0.5) U19(1.5,0.5) U20(2.5,0.5) U21(3.5,0.5) U22(4.5,0.5) U23(5.5,0.5) U24(6.5,0.5) U25(7.5,0.5) U26(8.5,0.5) U27(9.5,0.5) U28(10.5,0.5) U29(11.5,0.5) U30(12.5,0.5) U31(13.5,0.5) U32(14.5,0.5) U33(15.5,0.5) U34(16.5,0.5) V1(-16.5,-0.5) V2(-15.5,-0.5) V3(-14.5,-0.5) V4(-13.5,-0.5) V5(-12.5,-0.5) V6(-11.5,-0.5) V7(-10.5,-0.5) V8(-9.5,-0.5) V9(-8.5,-0.5) V10(-7.5,-0.5) V11(-6.5,-0.5) V12(-5.5,-0.5) V13(-4.5,-0.5) V14(-3.5,-0.5) V15(-2.5,-0.5) V16(-1.5,-0.5) V17(-0.5,-0.5) V18(0.5,-0.5) V19(1.5,-0.5) V20(2.5,-0.5) V21(3.5,-0.5) V22(4.5,-0.5) V23(5.5,-0.5) V24(6.5,-0.5) V25(7.5,-0.5) V26(8.5,-0.5) V27(9.5,-0.5) V28(10.5,-0.5) V29(11.5,-0.5) V30(12.5,-0.5) V31(13.5,-0.5) V32(14.5,-0.5) V33(15.5,-0.5) V34(16.5,-0.5) W1(-16.5,-1.5) W2(-15.5,-1.5) W3(-14.5,-1.5) W4(-13.5,-1.5) W5(-12.5,-1.5) W6(-11.5,-1.5) W7(-10.5,-1.5) W8(-9.5,-1.5) W9(-8.5,-1.5) W10(-7.5,-1.5) W11(-6.5,-1.5) W12(-5.5,-1.5) W13(-4.5,-1.5) W14(-3.5,-1.5) W15(-2.5,-1.5) W16(-1.5,-1.5) W17(-0.5,-1.5) W18(0.5,-1.5) W19(1.5,-1.5) W20(2.5,-1.5) W21(3.5,-1.5) W22(4.5,-1.5) W23(5.5,-1.5) W24(6.5,-1.5) W25(7.5,-1.5) W26(8.5,-1.5) W27(9.5,-1.5) W28(10.5,-1.5) W29(11.5,-1.5) W30(12.5,-1.5) W31(13.5,-1.5) W32(14.5,-1.5) W33(15.5,-1.5) W34(16.5,-1.5) Y1(-16.5,-2.5) Y2(-15.5,-2.5) Y3(-14.5,-2.5) Y4(-13.5,-2.5) Y5(-12.5,-2.5) Y6(-11.5,-2.5) Y7(-10.5,-2.5) Y8(-9.5,-2.5) Y9(-8.5,-2.5) Y10(-7.5,-2.5) Y11(-6.5,-2.5) Y12(-5.5,-2.5) Y13(-4.5,-2.5) Y14(-3.5,-2.5) Y15(-2.5,-2.5) Y16(-1.5,-2.5) Y17(-0.5,-2.5) Y18(0.5,-2.5) Y19(1.5,-2.5) Y20(2.5,-2.5) Y21(3.5,-2.5) Y22(4.5,-2.5) Y23(5.5,-2.5) Y24(6.5,-2.5) Y25(7.5,-2.5) Y26(8.5,-2.5) Y27(9.5,-2.5) Y28(10.5,-2.5) Y29(11.5,-2.5) Y30(12.5,-2.5) Y31(13.5,-2.5) Y32(14.5,-2.5) Y33(15.5,-2.5) Y34(16.5,-2.5)
Top Overlay:
  circle w0.25: c-18.15,17.35 r0.125
  region: -16.5,17.5 -17.5,16.5 -17.5,17.5
  lines w0.2: -17.5,16.5 -16.5,17.5 ; -17.5,-17.5 17.5,-17.5 17.5,17.5 -17.5,17.5 -17.5,-17.5
Mechanical 13:
  lines w0.1: -17.5,-17.5 17.5,-17.5 17.5,17.5 -17.5,17.5 -17.5,-17.5
Mechanical 15:
  lines w0.05: -18,-18 18,-18 18,18 -18,18 -18,-18
  lines w0.1: -0.5,0 0.5,0 ; 0,-0.5 0,0.5
3D body: height 3.35, standoff 0.4, extent -17.5,-17.5 17.5,17.5

## FPC-MARKS-1 [mm]
pads (2):
  round 2 on Top Solder: 0(0,0)
  round 1 smd: 1(0,0)

## HCP_48_1_ADI [mm]
pads (49):
  rect 0.805x0.254 smd paste+0 mask+0: 1(-3.402,2.75) 2(-3.402,2.25) 3(-3.402,1.75) 4(-3.402,1.25) 5(-3.402,0.75) 6(-3.402,0.25) 7(-3.402,-0.25) 8(-3.402,-0.75) 9(-3.402,-1.25) 10(-3.402,-1.75) 11(-3.402,-2.25) 12(-3.402,-2.75) 25(3.402,-2.75) 26(3.402,-2.25) 27(3.402,-1.75) 28(3.402,-1.25) 29(3.402,-0.75) 30(3.402,-0.25) 31(3.402,0.25) 32(3.402,0.75) 33(3.402,1.25) 34(3.402,1.75) 35(3.402,2.25) 36(3.402,2.75)
  rect 0.254x0.805 smd paste+0 mask+0: 13(-2.75,-3.402) 14(-2.25,-3.402) 15(-1.75,-3.402) 16(-1.25,-3.402) 17(-0.75,-3.402) 18(-0.25,-3.402) 19(0.25,-3.402) 20(0.75,-3.402) 21(1.25,-3.402) 22(1.75,-3.402) 23(2.25,-3.402) 24(2.75,-3.402) 37(2.75,3.402) 38(2.25,3.402) 39(1.75,3.402) 40(1.25,3.402) 41(0.75,3.402) 42(0.25,3.402) 43(-0.25,3.402) 44(-0.75,3.402) 45(-1.25,3.402) 46(-1.75,3.402) 47(-2.25,3.402) 48(-2.75,3.402)
  rect 5.6x5.6 smd paste-2.787 mask+0: 49(0,0)
Top Overlay:
  region: 1.441,4.059 1.06,4.059 1.06,4.313 1.441,4.313
  region: 4.059,-0.059 4.313,-0.059 4.313,-0.44 4.059,-0.44
  region: 0.941,-4.059 0.56,-4.059 0.56,-4.313 0.941,-4.313
  region: -4.059,-1.559 -4.313,-1.559 -4.313,-1.94 -4.059,-1.94
  lines w0.152: -3.627,-3.21 -3.627,-3.627 -3.21,-3.627 ; -3.627,3.21 -3.627,3.627 -3.21,3.627 ; 3.21,-3.627 3.627,-3.627 3.627,-3.21 ; 3.21,3.627 3.627,3.627 3.627,3.21
  text "*" at -4.757,2.365 h1.27
Top Paste:
  region: 2.7,-1.5 1.5,-1.5 1.5,-2.7 2.7,-2.7
  region: 2.7,-0.1 1.5,-0.1 1.5,-1.3 2.7,-1.3
  region: 2.7,1.3 1.5,1.3 1.5,0.1 2.7,0.1
  region: 2.7,2.7 1.5,2.7 1.5,1.5 2.7,1.5
  region: 1.3,-1.5 0.1,-1.5 0.1,-2.7 1.3,-2.7
  region: 1.3,-0.1 0.1,-0.1 0.1,-1.3 1.3,-1.3
  region: 1.3,1.3 0.1,1.3 0.1,0.1 1.3,0.1
  region: 1.3,2.7 0.1,2.7 0.1,1.5 1.3,1.5
  region: -0.1,-1.5 -1.3,-1.5 -1.3,-2.7 -0.1,-2.7
  region: -0.1,-0.1 -1.3,-0.1 -1.3,-1.3 -0.1,-1.3
  region: -0.1,1.3 -1.3,1.3 -1.3,0.1 -0.1,0.1
  region: -0.1,2.7 -1.3,2.7 -1.3,1.5 -0.1,1.5
  region: -1.5,-1.5 -2.7,-1.5 -2.7,-2.7 -1.5,-2.7
  region: -1.5,-0.1 -2.7,-0.1 -2.7,-1.3 -1.5,-1.3
  region: -1.5,1.3 -2.7,1.3 -2.7,0.1 -1.5,0.1
  region: -1.5,2.7 -2.7,2.7 -2.7,1.5 -1.5,1.5
Mechanical 5:
  region: 4.44,-4.44 -4.44,-4.44 -4.44,4.44 4.44,4.44
Mechanical 13:
  lines w0.025: -3.5,2.23 -2.23,3.5 ; -3.5,-3.5 -3.5,3.5 3.5,3.5 3.5,-3.5 -3.5,-3.5 ; -3.5,-2.902 -3.5,-2.598 -3.5,-2.902 ; -3.5,-2.402 -3.5,-2.098 -3.5,-2.402 ; -3.5,-1.902 -3.5,-1.598 -3.5,-1.902 ; -3.5,-1.402 -3.5,-1.098 -3.5,-1.402 ; -3.5,-0.902 -3.5,-0.598 -3.5,-0.902 ; -3.5,-0.402 -3.5,-0.098 -3.5,-0.402 ; -3.5,0.098 -3.5,0.402 -3.5,0.098 ; -3.5,0.598 -3.5,0.902 -3.5,0.598 ; -3.5,1.098 -3.5,1.402 -3.5,1.098 ; -3.5,1.598 -3.5,1.902 -3.5,1.598 ; -3.5,2.098 -3.5,2.402 -3.5,2.098 ; -3.5,2.598 -3.5,2.902 -3.5,2.598 ; -2.902,-3.5 -2.598,-3.5 -2.902,-3.5 ; -2.902,3.5 -2.598,3.5 -2.902,3.5 ; -2.402,-3.5 -2.098,-3.5 -2.402,-3.5 ; -2.402,3.5 -2.098,3.5 -2.402,3.5 ; -1.902,-3.5 -1.598,-3.5 -1.902,-3.5 ; -1.902,3.5 -1.598,3.5 -1.902,3.5 ; -1.402,-3.5 -1.098,-3.5 -1.402,-3.5 ; -1.402,3.5 -1.098,3.5 -1.402,3.5 ; -0.902,-3.5 -0.598,-3.5 -0.902,-3.5 ; -0.902,3.5 -0.598,3.5 -0.902,3.5 ; -0.402,-3.5 -0.098,-3.5 -0.402,-3.5 ; -0.402,3.5 -0.098,3.5 -0.402,3.5 ; 0.098,-3.5 0.402,-3.5 0.098,-3.5 ; 0.098,3.5 0.402,3.5 0.098,3.5 ; 0.598,-3.5 0.902,-3.5 0.598,-3.5 ; 0.598,3.5 0.902,3.5 0.598,3.5 ; 1.098,-3.5 1.402,-3.5 1.098,-3.5 ; 1.098,3.5 1.402,3.5 1.098,3.5 ; 1.598,-3.5 1.902,-3.5 1.598,-3.5 ; 1.598,3.5 1.902,3.5 1.598,3.5 ; 2.098,-3.5 2.402,-3.5 2.098,-3.5 ; 2.098,3.5 2.402,3.5 2.098,3.5 ; 2.598,-3.5 2.902,-3.5 2.598,-3.5 ; 2.598,3.5 2.902,3.5 2.598,3.5 ; 3.5,-2.902 3.5,-2.598 3.5,-2.902 ; 3.5,-2.402 3.5,-2.098 3.5,-2.402 ; 3.5,-1.902 3.5,-1.598 3.5,-1.902 ; 3.5,-1.402 3.5,-1.098 3.5,-1.402 ; 3.5,-0.902 3.5,-0.598 3.5,-0.902 ; 3.5,-0.402 3.5,-0.098 3.5,-0.402 ; 3.5,0.098 3.5,0.402 3.5,0.098 ; 3.5,0.598 3.5,0.902 3.5,0.598 ; 3.5,1.098 3.5,1.402 3.5,1.098 ; 3.5,1.598 3.5,1.902 3.5,1.598 ; 3.5,2.098 3.5,2.402 3.5,2.098 ; 3.5,2.598 3.5,2.902 3.5,2.598
  text "*" at -3.317,2.365 h1.27
Mechanical 15:
  region: -3.131,-3.754 -3.754,-3.754 -3.754,-3.131 -4.059,-3.131 -4.059,3.131 -3.754,3.131 -3.754,3.754 -3.131,3.754 -3.131,4.059 3.131,4.059 3.131,3.754 3.754,3.754 3.754,3.131 4.059,3.131 4.059,-3.131 3.754,-3.131 3.754,-3.754 3.131,-3.754 3.131,-4.059 -3.131,-4.059
  lines w0.152: -4.059,-3.131 -4.059,3.131 -3.754,3.131 -3.754,3.754 -3.131,3.754 -3.131,4.059 3.131,4.059 3.131,3.754 3.754,3.754 3.754,3.131 4.059,3.131 4.059,-3.131 3.754,-3.131 3.754,-3.754 3.131,-3.754 3.131,-4.059 -3.131,-4.059 -3.131,-3.754 -3.754,-3.754 -3.754,-3.131 -4.059,-3.131
3D body "HCP_48_1_ADI.step": height 0.9, standoff 0, extent -3.5,-3.5 3.5,3.5

## L0603 [mil] "L0603"
pads (2):
  oval 40x35 smd: 1(0,32.5) 2(0,-32.5)
Top Overlay:
  lines w10: 5,10 -10,-5 10,-5 ; -28,-48 -28,48 -18,58 18,58 28,48 28,-48 18,-58 -18,-58 -28,-48
Mechanical 5:
  lines w10: -25,-51.01 -28,-48 -28,48 -25,51.01 ; -21,-54.99 -18,-58 18,-58 21,-54.99 ; -21,54.99 -18,58 18,58 21,54.99 ; 5,10 -10,-5 10,-5 ; 25,-51.01 28,-48 28,48 25,51.01
Mechanical 14:
  text "1" at 11.2,32.5 h28
  text "2" at 11.2,-32.5 h28
Mechanical 16:
  pour cut-out: -28,-58 28,-58 28,58 -28,58
  region: -19.7,-35.4 19.7,-35.4 19.7,35.4 -19.7,35.4
  lines w1: -19.7,-35.4 -19.7,35.4 19.7,35.4 19.7,-35.4 -19.7,-35.4
3D body: height 150, standoff 0, extent -19.7,-35.4 19.7,35.4

## LFCSP16-ADCLK944BCPZ-R7 [mm]
pads (17):
  rect 0.8x0.3 smd: 1(-1.5,0.75) 2(-1.5,0.249) 3(-1.5,-0.25) 4(-1.5,-0.75) 9(1.5,-0.75) 10(1.5,-0.25) 11(1.5,0.25) 12(1.5,0.75)
  rect 0.3x0.8 smd: 5(-0.75,-1.5) 6(-0.25,-1.5) 7(0.25,-1.5) 8(0.751,-1.498) 13(0.75,1.5) 14(0.25,1.5) 15(-0.25,1.5) 16(-0.75,1.5)
  rect 1.5x1.5 smd: 17(0,0)
Top Overlay:
  lines w0.15: -1.805,1.37 cw(c-1.93,1.372) -1.805,1.373 ; -1.5,-1.079 -1.5,-1.5 -1.079,-1.5 ; -1.5,1.079 -1.5,1.5 -1.079,1.5 ; 1.08,-1.5 1.5,-1.5 1.5,-1.079 ; 1.079,1.5 1.5,1.5 1.5,1.079
Top Paste:
  region: -0.6,1.9 -0.6,1.1 -0.9,1.1 -0.9,1.9
  region: -0.1,1.9 -0.1,1.1 -0.4,1.1 -0.4,1.9
  region: 0.4,1.9 0.4,1.1 0.1,1.1 0.1,1.9
  region: 0.9,1.9 0.9,1.1 0.6,1.1 0.6,1.9
  region: 1.9,0.9 1.9,0.6 1.1,0.6 1.1,0.9
  region: 1.9,0.4 1.9,0.1 1.1,0.1 1.1,0.4
  region: 1.9,-0.1 1.9,-0.4 1.1,-0.4 1.1,-0.1
  region: 1.9,-0.6 1.9,-0.9 1.1,-0.9 1.1,-0.6
  region: 0.901,-1.098 0.901,-1.898 0.601,-1.898 0.601,-1.098
  region: 0.4,-1.1 0.4,-1.9 0.1,-1.9 0.1,-1.1
  region: -0.1,-1.1 -0.1,-1.9 -0.4,-1.9 -0.4,-1.1
  region: -0.6,-1.1 -0.6,-1.9 -0.9,-1.9 -0.9,-1.1
  region: -1.1,-0.6 -1.1,-0.9 -1.9,-0.9 -1.9,-0.6
  region: -1.1,-0.1 -1.1,-0.4 -1.9,-0.4 -1.9,-0.1
  region: -1.1,0.398 -1.1,0.099 -1.9,0.099 -1.9,0.398
  region: -1.1,0.9 -1.1,0.6 -1.9,0.6 -1.9,0.9
  region: -0.6,-0.6 -0.6,0.6 0.6,0.6 0.6,-0.6
Mechanical 15:
  circle w0.2: c-1.75,0.75 r0.1

## LGA144 [mm] "LTM4630"
pads (144):
  round 0.63 smd: A1(-6.985,6.985)
  rect 0.63x0.63 smd: A2(-6.985,5.715) A3(-6.985,4.445) A4(-6.985,3.175) A5(-6.985,1.905) A6(-6.985,0.635) A7(-6.985,-0.635) A8(-6.985,-1.905) A9(-6.985,-3.175) A10(-6.985,-4.445) A11(-6.985,-5.715) A12(-6.985,-6.985) B1(-5.715,6.985) B2(-5.715,5.715) B3(-5.715,4.445) B4(-5.715,3.175) B5(-5.715,1.905) B6(-5.715,0.635) B7(-5.715,-0.635) B8(-5.715,-1.905) B9(-5.715,-3.175) B10(-5.715,-4.445) B11(-5.715,-5.715) B12(-5.715,-6.985) C1(-4.445,6.985) C2(-4.445,5.715) C3(-4.445,4.445) C4(-4.445,3.175) C5(-4.445,1.905) C6(-4.445,0.635) C7(-4.445,-0.635) C8(-4.445,-1.905) C9(-4.445,-3.175) C10(-4.445,-4.445) C11(-4.445,-5.715) C12(-4.445,-6.985) D1(-3.175,6.985) D2(-3.175,5.715) D3(-3.175,4.445) D4(-3.175,3.175) D5(-3.175,1.905) D6(-3.175,0.635) D7(-3.175,-0.635) D8(-3.175,-1.905) D9(-3.175,-3.175) D10(-3.175,-4.445) D11(-3.175,-5.715) D12(-3.175,-6.985) E1(-1.905,6.985) E2(-1.905,5.715) E3(-1.905,4.445) E4(-1.905,3.175) E5(-1.905,1.905) E6(-1.905,0.635) E7(-1.905,-0.635) E8(-1.905,-1.905) E9(-1.905,-3.175) E10(-1.905,-4.445) E11(-1.905,-5.715) E12(-1.905,-6.985) F1(-0.635,6.985) F2(-0.635,5.715) F3(-0.635,4.445) F4(-0.635,3.175) F5(-0.635,1.905) F6(-0.635,0.635) F7(-0.635,-0.635) F8(-0.635,-1.905) F9(-0.635,-3.175) F10(-0.635,-4.445) F11(-0.635,-5.715) F12(-0.635,-6.985) G1(0.635,6.985) G2(0.635,5.715) G3(0.635,4.445) G4(0.635,3.175) G5(0.635,1.905) G6(0.635,0.635) G7(0.635,-0.635) G8(0.635,-1.905) G9(0.635,-3.175) G10(0.635,-4.445) G11(0.635,-5.715) G12(0.635,-6.985) H1(1.905,6.985) H2(1.905,5.715) H3(1.905,4.445) H4(1.905,3.175) H5(1.905,1.905) H6(1.905,0.635) H7(1.905,-0.635) H8(1.905,-1.905) H9(1.905,-3.175) H10(1.905,-4.445) H11(1.905,-5.715) H12(1.905,-6.985) J1(3.175,6.985) J2(3.175,5.715) J3(3.175,4.445) J4(3.175,3.175) J5(3.175,1.905) J6(3.175,0.635) J7(3.175,-0.635) J8(3.175,-1.905) J9(3.175,-3.175) J10(3.175,-4.445) J11(3.175,-5.715) J12(3.175,-6.985) K1(4.445,6.985) K2(4.445,5.715) K3(4.445,4.445) K4(4.445,3.175) K5(4.445,1.905) K6(4.445,0.635) K7(4.445,-0.635) K8(4.445,-1.905) K9(4.445,-3.175) K10(4.445,-4.445) K11(4.445,-5.715) K12(4.445,-6.985) L1(5.715,6.985) L2(5.715,5.715) L3(5.715,4.445) L4(5.715,3.175) L5(5.715,1.905) L6(5.715,0.635) L7(5.715,-0.635) L8(5.715,-1.905) L9(5.715,-3.175) L10(5.715,-4.445) L11(5.715,-5.715) L12(5.715,-6.985) M1(6.985,6.985) M2(6.985,5.715) M3(6.985,4.445) M4(6.985,3.175) M5(6.985,1.905) M6(6.985,0.635) M7(6.985,-0.635) M8(6.985,-1.905) M9(6.985,-3.175) M10(6.985,-4.445) M11(6.985,-5.715) M12(6.985,-6.985)
Top Overlay:
  lines w0.249: -8.7,7.1 cw(c-8.699,7.225) -8.697,7.1
  lines w0.254: -8.3,7.2 -8.3,8.3 -7.2,8.3 ; -8,7.1 -7.165,7.935 -7.165,8 ; -8,7.401 -7.401,8 -7.33,8 ; -8,7.6 -7.699,7.901 -7.699,8 ; -8,-8 8,-8 8,8 -8,8 -8,-8

## LQFP48-50P7X7X1.6 [mm] "LQFP, 48-Leads, Body 9.2x9.2mm (max), Pitch 0.50mm, IPC Medium Density"
height 1.6
pads (49):
  oval 1.2x0.3 smd: 1(-4.3,2.75) 2(-4.3,2.25) 3(-4.3,1.75) 4(-4.3,1.25) 5(-4.3,0.75) 6(-4.3,0.25) 7(-4.3,-0.25) 8(-4.3,-0.75) 9(-4.3,-1.25) 10(-4.3,-1.75) 11(-4.3,-2.25) 12(-4.3,-2.75) 25(4.3,-2.75) 26(4.3,-2.25) 27(4.3,-1.75) 28(4.3,-1.25) 29(4.3,-0.75) 30(4.3,-0.25) 31(4.3,0.25) 32(4.3,0.75) 33(4.3,1.25) 34(4.3,1.75) 35(4.3,2.25) 36(4.3,2.75)
  oval 0.3x1.2 smd: 13(-2.75,-4.3) 14(-2.25,-4.3) 15(-1.75,-4.3) 16(-1.25,-4.3) 17(-0.75,-4.3) 18(-0.25,-4.3) 19(0.25,-4.3) 20(0.75,-4.3) 21(1.25,-4.3) 22(1.75,-4.3) 23(2.25,-4.3) 24(2.75,-4.3) 37(2.75,4.3) 38(2.25,4.3) 39(1.75,4.3) 40(1.25,4.3) 41(0.75,4.3) 42(0.25,4.3) 43(-0.25,4.3) 44(-0.75,4.3) 45(-1.25,4.3) 46(-1.75,4.3) 47(-2.25,4.3) 48(-2.75,4.3)
  rect 3.1x3.1 smd: 49(0,0)
Top Overlay:
  circle w0.6: c-2.5,2.5 r0.3
  circle w0.25: c-4.5,3.45 r0.125
  lines w0.2: -3.5,-3.5 3.5,-3.5 3.5,3.5 -3.5,3.5 -3.5,-3.5
Mechanical 13:
  circle w0.1: c-2.55,2.55 r0.5
  lines w0.1: -3.5,-3.5 3.5,-3.5 3.5,3.5 -3.5,3.5 -3.5,-3.5
Mechanical 15:
  lines w0.1: -0.5,0 0.5,0 ; 0,-0.5 0,0.5 ; -5.2,-5.2 5.2,-5.2 5.2,5.2 -5.2,5.2 -5.2,-5.2
3D body: height 1.6, standoff 0.05, extent -3.5,-3.5 3.5,3.5

## LT1963A-S8 [mil]
pads (8):
  rect 70x30 smd: 1(-104.33,75) 2(-104.33,25) 3(-104.33,-25) 4(-104.33,-75) 5(104.33,-75) 6(104.33,-25) 7(104.33,25) 8(104.33,75)
Top Overlay:
  lines w7: -40,-98.43 -40,98.43 ; -170,55 -170,95 -150,75 -170,55 ; -54.02,-98.43 54.2,-98.43 54.2,98.43 -54.02,98.43 -54.02,-98.43

## LTM4622 [mm]
height 1.55
pads (25):
  round 0.63 smd: A1(-2.54,-2.54) A2(-2.54,-1.27) A3(-2.54,0) A4(-2.54,1.27) A5(-2.54,2.54) B1(-1.27,-2.54) B2(-1.27,-1.27) B3(-1.27,0) B4(-1.27,1.27) B5(-1.27,2.54) C1(0,-2.54) C2(0,-1.27) C3(0,0) C4(0,1.27) C5(0,2.54) D1(1.27,-2.54) D2(1.27,-1.27) D3(1.27,0) D4(1.27,1.27) D5(1.27,2.54) E1(2.54,-2.54) E2(2.54,-1.27) E3(2.54,0) E4(2.54,1.27) E5(2.54,2.54)
Top Overlay:
  region: -3.5,-2.5 -2.5,-3.5 -3.5,-3.5
  lines w0.2: -3.5,-2.5 -2.5,-3.5 ; -3.5,-3.5 -3.5,3.5 3.5,3.5 3.5,-3.5 -3.5,-3.5
Mechanical 13:
  lines w0.1: -3.5,-3.5 -3.5,3.5 3.5,3.5 3.5,-3.5 -3.5,-3.5
Mechanical 15:
  lines w0.1: -0.5,0 0.5,0 ; 0,-0.5 0,0.5
3D body: height 1.55, standoff 0, extent -3.5,-3.5 3.5,3.5

## LTM4644 [mm] "LTM4644"
pads (77):
  round 0.635 smd: A1(-3.81,6.35) A2(-2.54,6.35) A3(-1.27,6.35) A4(0,6.35) A5(1.27,6.35) A6(2.54,6.35) A7(3.81,6.35) B1(-3.81,5.08) B2(-2.54,5.08) B3(-1.27,5.08) B4(0,5.08) B5(1.27,5.08) B6(2.54,5.08) B7(3.81,5.08) C1(-3.81,3.81) C2(-2.54,3.81) C3(-1.27,3.81) C4(0,3.81) C5(1.27,3.81) C6(2.54,3.81) C7(3.81,3.81) D1(-3.81,2.54) D2(-2.54,2.54) D3(-1.27,2.54) D4(0,2.54) D5(1.27,2.54) D6(2.54,2.54) D7(3.81,2.54) E1(-3.81,1.27) E2(-2.54,1.27) E3(-1.27,1.27) E4(0,1.27) E5(1.27,1.27) E6(2.54,1.27) E7(3.81,1.27) F1(-3.81,0) F2(-2.54,0) F3(-1.27,0) F4(0,0) F5(1.27,0) F6(2.54,0) F7(3.81,0) G1(-3.81,-1.27) G2(-2.54,-1.27) G3(-1.27,-1.27) G4(0,-1.27) G5(1.27,-1.27) G6(2.54,-1.27) G7(3.81,-1.27) H1(-3.81,-2.54) H2(-2.54,-2.54) H3(-1.27,-2.54) H4(0,-2.54) H5(1.27,-2.54) H6(2.54,-2.54) H7(3.81,-2.54) J1(-3.81,-3.81) J2(-2.54,-3.81) J3(-1.27,-3.81) J4(0,-3.81) J5(1.27,-3.81) J6(2.54,-3.81) J7(3.81,-3.81) K1(-3.81,-5.08) K2(-2.54,-5.08) K3(-1.27,-5.08) K4(0,-5.08) K5(1.27,-5.08) K6(2.54,-5.08) K7(3.81,-5.08) L1(-3.81,-6.35) L2(-2.54,-6.35) L3(-1.27,-6.35) L4(0,-6.35) L5(1.27,-6.35) L6(2.54,-6.35) L7(3.81,-6.35)
Top Overlay:
  lines w0.05: -4,7.5 -4.5,7 -4.5,6.5 ; -4.5,6.5 -3.5,7.5 -4.5,6.5 ; -4.5,-7.5 4.5,-7.5 4.5,7.5 -4.5,7.5 -4.5,-7.5
  lines w0.25: -5.5,7.635 ccw(c-5,7.635) -5,7.135 ccw(c-5,7.635) -4.5,7.635 ccw(c-5,7.635) -5,8.135 ccw(c-5,7.635) -5.5,7.635
Mechanical 5:
  lines w0.05: -4,7.5 -4.5,7 -4.5,6.5 ; -4.5,6.5 -3.5,7.5 -4.5,6.5 ; -4.5,-7.5 4.5,-7.5 4.5,7.5 -4.5,7.5 -4.5,-7.5
  lines w0.25: -5.5,7.635 cw(c-5,7.635) -5,8.135 cw(c-5,7.635) -4.5,7.635 cw(c-5,7.635) -5,7.135 cw(c-5,7.635) -5.5,7.635
  text "U136" at 4.954,1.557 h0.64
Mechanical 14:
  text "L6" at 2.54,-5.842 h0.64
  text "K5" at 1.27,-4.572 h0.64
  text "J2" at -2.54,-3.302 h0.64
  text "H6" at 2.54,-2.032 h0.64
  text "J4" at 0,-3.302 h0.64
  text "F2" at -2.54,0.508 h0.64
  text "C3" at -1.27,4.318 h0.64
  text "C2" at -2.54,4.318 h0.64
  text "B6" at 2.54,5.588 h0.64
  text "C4" at 0,4.318 h0.64
  text "A6" at 2.54,6.858 h0.64
  text "D6" at 2.54,3.048 h0.64
  text "G6" at 2.54,-0.762 h0.64
  text "J7" at 3.81,-3.302 h0.64
  text "K7" at 3.81,-4.572 h0.64
  text "H7" at 3.81,-2.032 h0.64
  text "E7" at 3.81,1.778 h0.64
  text "B7" at 3.81,5.588 h0.64
  text "K6" at 2.54,-4.572 h0.64
  text "E6" at 2.54,1.778 h0.64
  text "F4" at 0,0.508 h0.64
  text "D7" at 3.81,3.048 h0.64
  text "G7" at 3.81,-0.762 h0.64
  text "A7" at 3.81,6.858 h0.64
  text "C6" at 2.54,4.318 h0.64
  text "F6" at 2.54,0.508 h0.64
  text "J6" at 2.54,-3.302 h0.64
  text "C7" at 3.81,4.318 h0.64
  text "J3" at -1.27,-3.302 h0.64
  text "L7" at 3.81,-5.842 h0.64
  text "F3" at -1.27,0.508 h0.64
  text "D2" at -2.54,3.048 h0.64
  text "D1" at -3.81,3.048 h0.64
  text "F1" at -3.81,0.508 h0.64
  text "G2" at -2.54,-0.762 h0.64
  text "G1" at -3.81,-0.762 h0.64
  text "A1" at -3.81,6.858 h0.64
  text "C1" at -3.81,4.318 h0.64
  text "A2" at -2.54,6.858 h0.64
  text "A3" at -1.27,6.858 h0.64
  text "E5" at 1.27,1.778 h0.64
  text "E4" at 0,1.778 h0.64
  text "E3" at -1.27,1.778 h0.64
  text "B3" at -1.27,5.588 h0.64
  text "B4" at 0,5.588 h0.64
  text "B5" at 1.27,5.588 h0.64
  text "H3" at -1.27,-2.032 h0.64
  text "H5" at 1.27,-2.032 h0.64
  text "H4" at 0,-2.032 h0.64
  text "L5" at 1.27,-5.842 h0.64
  text "L4" at 0,-5.842 h0.64
  text "L3" at -1.27,-5.842 h0.64
  text "J1" at -3.81,-3.302 h0.64
  text "K1" at -3.81,-4.572 h0.64
  text "K2" at -2.54,-4.572 h0.64
  text "E1" at -3.81,1.778 h0.64
  text "E2" at -2.54,1.778 h0.64
  text "B1" at -3.81,5.588 h0.64
  text "B2" at -2.54,5.588 h0.64
  text "L1" at -3.81,-5.842 h0.64
  text "H1" at -3.81,-2.032 h0.64
  text "H2" at -2.54,-2.032 h0.64
  text "L2" at -2.54,-5.842 h0.64
  text "C5" at 1.27,4.318 h0.64
  text "A4" at 0,6.858 h0.64
  text "A5" at 1.27,6.858 h0.64
  text "D3" at -1.27,3.048 h0.64
  text "D5" at 1.27,3.048 h0.64
  text "D4" at 0,3.048 h0.64
  text "J5" at 1.27,-3.302 h0.64
  text "F5" at 1.27,0.508 h0.64
  text "F7" at 3.81,0.508 h0.64
  text "K3" at -1.27,-4.572 h0.64
  text "K4" at 0,-4.572 h0.64
  text "G5" at 1.27,-0.762 h0.64
  text "G4" at 0,-0.762 h0.64
  text "G3" at -1.27,-0.762 h0.64
Mechanical 16:
  circle w0.05: c0,0 r0.35
  region: -4.445,-7.55 4.55,-7.55 4.55,7.625 -4.445,7.625
  lines w0.05: -0.5,0 0.5,0 ; 0,-0.5 0,0.5
  lines w0.1: -4.5,6.5 -3.5,7.5 ; -4.5,6.6 -3.6,7.5 ; -4.5,6.7 -3.7,7.5 ; -4.5,6.8 -3.8,7.5 ; -4.5,6.9 -3.9,7.5 ; -4.5,7 -4,7.5 ; -4.5,7.1 -4.1,7.5 ; -4.5,7.2 -4.2,7.5 ; -4.5,7.3 -4.3,7.5 ; -4.5,7.4 -4.4,7.5 ; -4.5,-7.5 -4.5,7.5 4.5,7.5 4.5,-7.5 -4.5,-7.5
Mechanical 17:
  text "LTM4644IY" at 7.62,4.826 h0.64
3D body: height 3.81, standoff 0, extent -4.445,-7.55 4.55,7.625

## MLP8_THEM1 [mil] "MLP8_THEM1"
pads (9):
  oval 25x45 smd: 1(75,157) 2(25,157) 3(-25,157) 4(-75,157) 5(-75,-157) 6(-25,-157) 7(25,-157) 8(75,-157)
  rect 188.98x183.07 smd: 9(0,0)
Top Overlay:
  lines w6: -100,-160 -120,-160 -120,160 -100,160 ; 100,-160 120,-160 120,160 100,160 ; 111.81,177.66 ccw(c121.81,177.66) 121.81,167.66 ccw(c121.81,177.66) 131.81,177.66 ccw(c121.81,177.66) 121.81,187.66 ccw(c121.81,177.66) 111.81,177.66
Mechanical 5:
  lines w6: -100,-160 -120,-160 -120,160 -100,160 ; 100,-160 120,-160 120,160 100,160 ; 111.81,177.66 cw(c121.81,177.66) 121.81,187.66 cw(c121.81,177.66) 131.81,177.66 cw(c121.81,177.66) 121.81,167.66 cw(c121.81,177.66) 111.81,177.66
Mechanical 14:
  text "9" at 0,-20 h25
  text "4" at -75,153 h10
  text "6" at -25,-161 h10
  text "2" at 25,153 h10
  text "7" at 25,-161 h10
  text "5" at -75,-161 h10
  text "1" at 75,153 h10
  text "3" at -25,153 h10
  text "8" at 75,-161 h10
Mechanical 16:
  region: -123,-184.5 134.81,-184.5 134.81,190.66 -123,190.66
  lines w6: -100,-160 -120,-160 -120,160 -100,160 ; 100,-160 120,-160 120,160 100,160
3D body: height 150, standoff 0, extent -123,-184.5 134.81,190.66

## NFM21CC [mm] "NFM21CC"
pads (3):
  rect 0.6x1.3 smd: 1(-1.15,0) 3(1.15,0)
  rect 0.9x1.8 smd: 2(0,0)
Top Overlay:
  lines w0.15: -1.6,-0.85 -1.6,0.85 -0.6,0.85 -0.6,1.05 0.6,1.05 0.6,0.85 1.6,0.85 1.6,-0.85 0.6,-0.85 0.6,-1.05 -0.6,-1.05 -0.6,-0.85 -1.6,-0.85
Mechanical 14:
  text "3" at 1.15,-0.203 h0.25
  text "1" at -1.15,-0.203 h0.25
  text "2" at 0,-0.203 h0.25
Mechanical 16:
  region: -1.75,0.85 -1.75,-0.85 1.75,-0.85 1.75,0.85
3D body: height 3.81, standoff 0, extent -1.75,-0.85 1.75,0.85

## QFN10P_20_118X118_TP94X65V5 [mil] "QFN10P_20_118X118_TP94X65V5"
pads (16):
  oval 11x39 smd: 1(-39.37,-59.06) 2(-19.69,-59.06) 3(0,-59.06) 4(19.69,-59.06) 5(39.37,-59.06) 6(39.37,59.06) 7(19.69,59.06) 8(0,59.06) 9(-19.69,59.06) 10(-39.37,59.06)
  oct 1x1 smd: 11(0,0)
  round 22 hole 12: 12(-29.53,-19.69) 13(29.53,-19.69) 14(-29.53,19.69) 15(29.53,19.69) 16(0,0)
Top Overlay:
  lines w10: -83,-23 -83,23 -64.06,23 -64.06,64.06 -52.87,64.06 -52.87,86.56 52.87,86.56 52.87,64.06 64.06,64.06 64.06,23 83,23 83,-23 64.06,-23 64.06,-64.06 52.87,-64.06 52.87,-86.56 -52.87,-86.56 -52.87,-64.06 -64.06,-64.06 -64.06,-23 -83,-23 ; -59.37,-111.56 -39.37,-91.56 -19.37,-111.56 -59.37,-111.56
Mechanical 5:
  lines w10: -83,-23 -64.06,-23 -64.06,-64.06 -52.87,-64.06 -52.87,-86.56 52.87,-86.56 52.87,-64.06 64.06,-64.06 64.06,-23 83,-23 83,23 64.06,23 64.06,64.06 52.87,64.06 52.87,86.56 -52.87,86.56 -52.87,64.06 -64.06,64.06 -64.06,23 -83,23 -83,-23 ; -59.37,-111.56 -19.37,-111.56 -39.37,-91.56 -59.37,-111.56
Mechanical 14:
  text "1" at -28.17,-59.06 h28
  text "7" at 30.89,59.06 h28
  text "9" at -8.49,59.06 h28
  text "2" at -8.49,-59.06 h28
  text "3" at 11.2,-59.06 h28
  text "5" at 50.57,-59.06 h28
  text "6" at 50.57,59.06 h28
  text "10" at -16.97,59.06 h28
  text "4" at 30.89,-59.06 h28
  text "8" at 11.2,59.06 h28
  text "13" at 51.93,-19.69 h28
  text "14" at -7.13,19.69 h28
  text "16" at 22.4,0 h28
  text "15" at 51.93,19.69 h28
  text "12" at -7.13,-19.69 h28
  text "11" at 22.4,0 h28
Mechanical 16:
  pour cut-out: 52.87,86.56 52.87,64.06 64.06,64.06 64.06,23 83,23 83,-23 64.06,-23 64.06,-64.06 52.87,-64.06 52.87,-86.56 -52.87,-86.56 -52.87,-64.06 -64.06,-64.06 -64.06,-23 -83,-23 -83,23 -64.06,23 -64.06,64.06 -52.87,64.06 -52.87,86.56
  region: -59.06,-59.06 59.06,-59.06 59.06,59.06 -59.06,59.06
  lines w1: -59.06,-59.06 -59.06,59.06 59.06,59.06 59.06,-59.06 -59.06,-59.06
Mechanical 17:
  text ".Designator" at 6,1.67 h5
3D body: height 150, standoff 0, extent -59.06,-59.06 59.06,59.06